# Altium schematic symbol library MOD-E73-2G4M08S1C.SchLib: 1 symbol
Pins are listed as number, name and electrical type; pins without a type are passive.

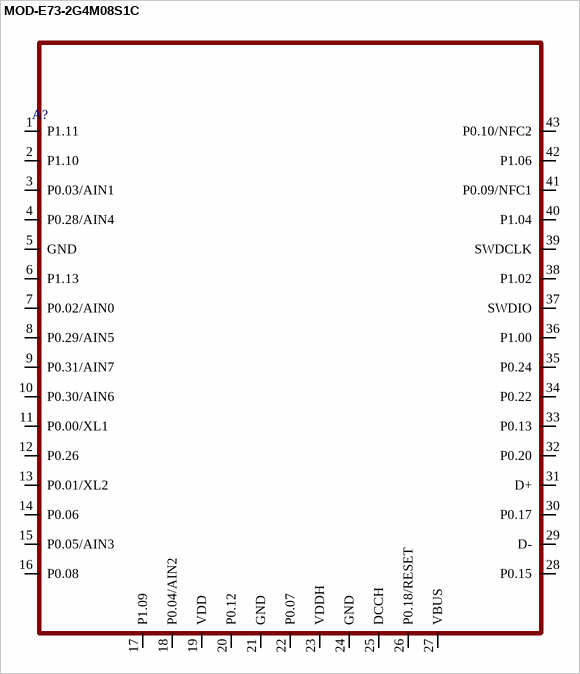
[diagram p0: symbol MOD-E73-2G4M08S1C]

## MOD-E73-2G4M08S1C
designator A?
pins: 1 P1.11, 2 P1.10, 3 P0.03/AIN1, 4 P0.28/AIN4, 5 GND, 6 P1.13, 7 P0.02/AIN0, 8 P0.29/AIN5, 9 P0.31/AIN7, 10 P0.30/AIN6, 11 P0.00/XL1, 12 P0.26, 13 P0.01/XL2, 14 P0.06, 15 P0.05/AIN3, 16 P0.08, 17 P1.09, 18 P0.04/AIN2, 19 VDD, 20 P0.12, 21 GND, 22 P0.07, 23 VDDH, 24 GND, 25 DCCH, 26 P0.18/RESET, 27 VBUS, 28 P0.15, 29 D-, 30 P0.17, 31 D+, 32 P0.20, 33 P0.13, 34 P0.22, 35 P0.24, 36 P1.00, 37 SWDIO, 38 P1.02, 39 SWDCLK, 40 P1.04, 41 P0.09/NFC1, 42 P1.06, 43 P0.10/NFC2